# EAGLE library part VS1053B-L (library yb-library)
VLSI, VS1053B-L 18bit-Audio Codec 48-Pin LQFP
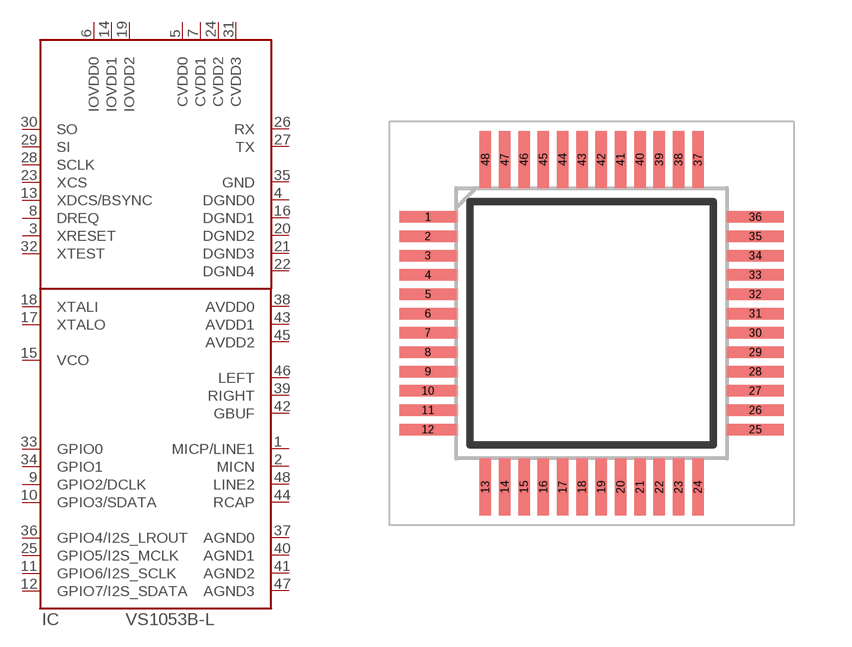
[diagram p17: symbol with the pads of QFP50P900X900X160-48N; footprint QFP50P900X900X160-48N]

Designator prefix IC

## VS1053B-L  [QFP50P900X900X160-48N]
1  MICP/LINE1
2  MICN
3  XRESET
4  DGND0
5  CVDD0
6  IOVDD0
7  CVDD1
8  DREQ
9  GPIO2/DCLK
10  GPIO3/SDATA
11  GPIO6/I2S_SCLK
12  GPIO7/I2S_SDATA
13  XDCS/BSYNC
14  IOVDD1
15  VCO
16  DGND1
17  XTALO
18  XTALI
19  IOVDD2
20  DGND2
21  DGND3
22  DGND4
23  XCS
24  CVDD2
25  GPIO5/I2S_MCLK
26  RX
27  TX
28  SCLK
29  SI
30  SO
31  CVDD3
32  XTEST
33  GPIO0
34  GPIO1
35  GND
36  GPIO4/I2S_LROUT
37  AGND0
38  AVDD0
39  RIGHT
40  AGND1
41  AGND2
42  GBUF
43  AVDD1
44  RCAP
45  AVDD2
46  LEFT
47  AGND3
48  LINE2

## Footprint QFP50P900X900X160-48N (pad centres in mm)
48-Pin LQFP
smd 1.475 x 0.3: 1 -4.238,2.75; 2 -4.238,2.25; 3 -4.238,1.75; 4 -4.238,1.25; 5 -4.238,0.75; 6 -4.238,0.25; 7 -4.238,-0.25; 8 -4.238,-0.75; 9 -4.238,-1.25; 10 -4.238,-1.75; 11 -4.238,-2.25; 12 -4.238,-2.75; 25 4.238,-2.75; 26 4.238,-2.25; 27 4.238,-1.75; 28 4.238,-1.25; 29 4.238,-0.75; 30 4.238,-0.25; 31 4.238,0.25; 32 4.238,0.75; 33 4.238,1.25; 34 4.238,1.75; 35 4.238,2.25; 36 4.238,2.75
smd 0.3 x 1.475: 13 -2.75,-4.238; 14 -2.25,-4.238; 15 -1.75,-4.238; 16 -1.25,-4.238; 17 -0.75,-4.238; 18 -0.25,-4.238; 19 0.25,-4.238; 20 0.75,-4.238; 21 1.25,-4.238; 22 1.75,-4.238; 23 2.25,-4.238; 24 2.75,-4.238; 37 2.75,4.238; 38 2.25,4.238; 39 1.75,4.238; 40 1.25,4.238; 41 0.75,4.238; 42 0.25,4.238; 43 -0.25,4.238; 44 -0.75,4.238; 45 -1.25,4.238; 46 -1.75,4.238; 47 -2.25,4.238; 48 -2.75,4.238